# EAGLE library part GTL2003 (library IC)
NXP Semiconductors 8-bit bidirectional low voltage translator
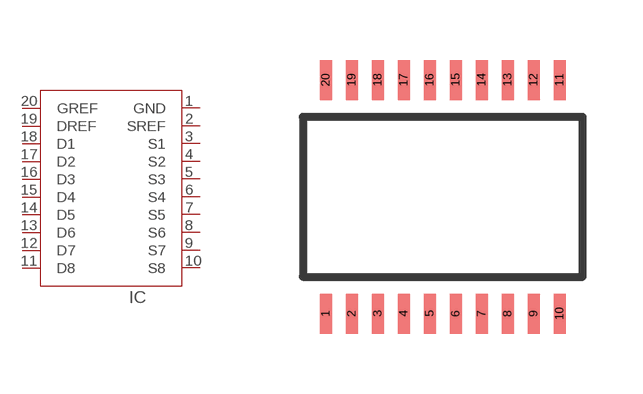
[diagram p162: symbol with the pads of TSSOP20; footprint TSSOP20]

Designator prefix IC

## GTL2003PW  [TSSOP20]
1  GND
2  SREF
3  S1
4  S2
5  S3
6  S4
7  S5
8  S6
9  S7
10  S8
11  D8
12  D7
13  D6
14  D5
15  D4
16  D3
17  D2
18  D1
19  DREF
20  GREF

## Footprint TSSOP20 (pad centres in mm)
smd 0.3 x 1: 1 -2.925,-2.925; 2 -2.275,-2.925; 3 -1.625,-2.925; 4 -0.975,-2.925; 5 -0.325,-2.925; 6 0.325,-2.925; 7 0.975,-2.925; 8 1.625,-2.925; 9 2.275,-2.925; 10 2.925,-2.925; 11 2.925,2.925; 12 2.275,2.925; 13 1.625,2.925; 14 0.975,2.925; 15 0.325,2.925; 16 -0.325,2.925; 17 -0.975,2.925; 18 -1.625,2.925; 19 -2.275,2.925; 20 -2.925,2.925